# EAGLE library part MP04518 (library golledge)
SAW Filter Example 418.0MHz Datasheet and Purchasing Information <http://www.golledge.com/docs/products/saw/gsrf_list.htm?src=eagle>
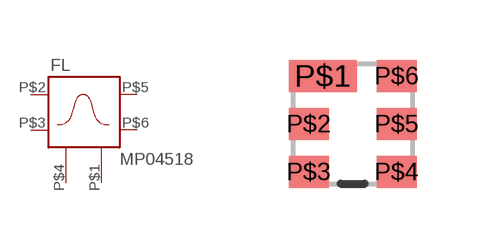
[diagram p4: symbol with the pads of SAW3X3P6; footprint SAW3X3P6]

Designator prefix FL

## MP04518 (HEIGHT: 1.4)  [SAW3X3P6]
P$1  CASE  pas
P$2  IN  pas
P$3  GND  pas
P$4  CASE  pas
P$5  OUT  pas
P$6  GND  pas

## Footprint SAW3X3P6 (pad centres in mm)
3.0 x 3.0 mm SAW 6 pad package.
smd 1.7 x 0.8: P$1 -0.75,1.2
smd 1 x 0.8: P$2 -1.1,0; P$3 -1.1,-1.2; P$4 1.1,-1.2; P$5 1.1,0; P$6 1.1,1.2